# EAGLE library part TTP223 (library coomu)
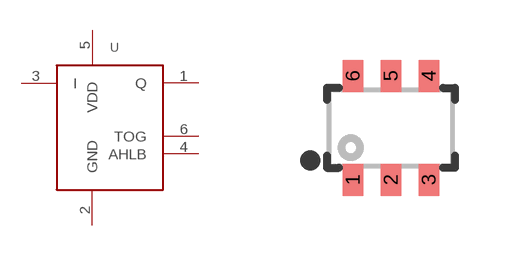
[diagram p1: symbol with the pads of SOT23-6; footprint SOT23-6]

Designator prefix -

## TTP223  [SOT23-6]
1  Q
2  GND
3  I
4  AHLB
5  VDD
6  TOG

## Footprint SOT23-6 (pad centres in mm)
6-Pin SOT23-6 Datasheet <http://cdn.sparkfun.com/datasheets/Sensors/Capacitive/AT42QT1010_Datasheet.pdf> Specifications: Pin Count: 6 Area: 2.6 x 2.9 x 1.45 mm Pitch: 0.95 mm Devices Using: AT42QT1012
smd 0.51 x 0.8: 1 -0.95,-1.3; 2 0,-1.3; 3 0.95,-1.3; 4 0.95,1.3; 5 0,1.3; 6 -0.95,1.3